# Altium footprint library UAV.PcbLib: 28 footprints (part 2 of 2)
Each footprint in its own frame and in the unit in brackets; x right, y up, seen from the top. Pads: shape width x height; smd on the part's side, far side on the other; paste and mask are expansions set on the pad; w line width, h text height; cw(c..) or ccw(c..) is an arc to the next point about the centre after c.
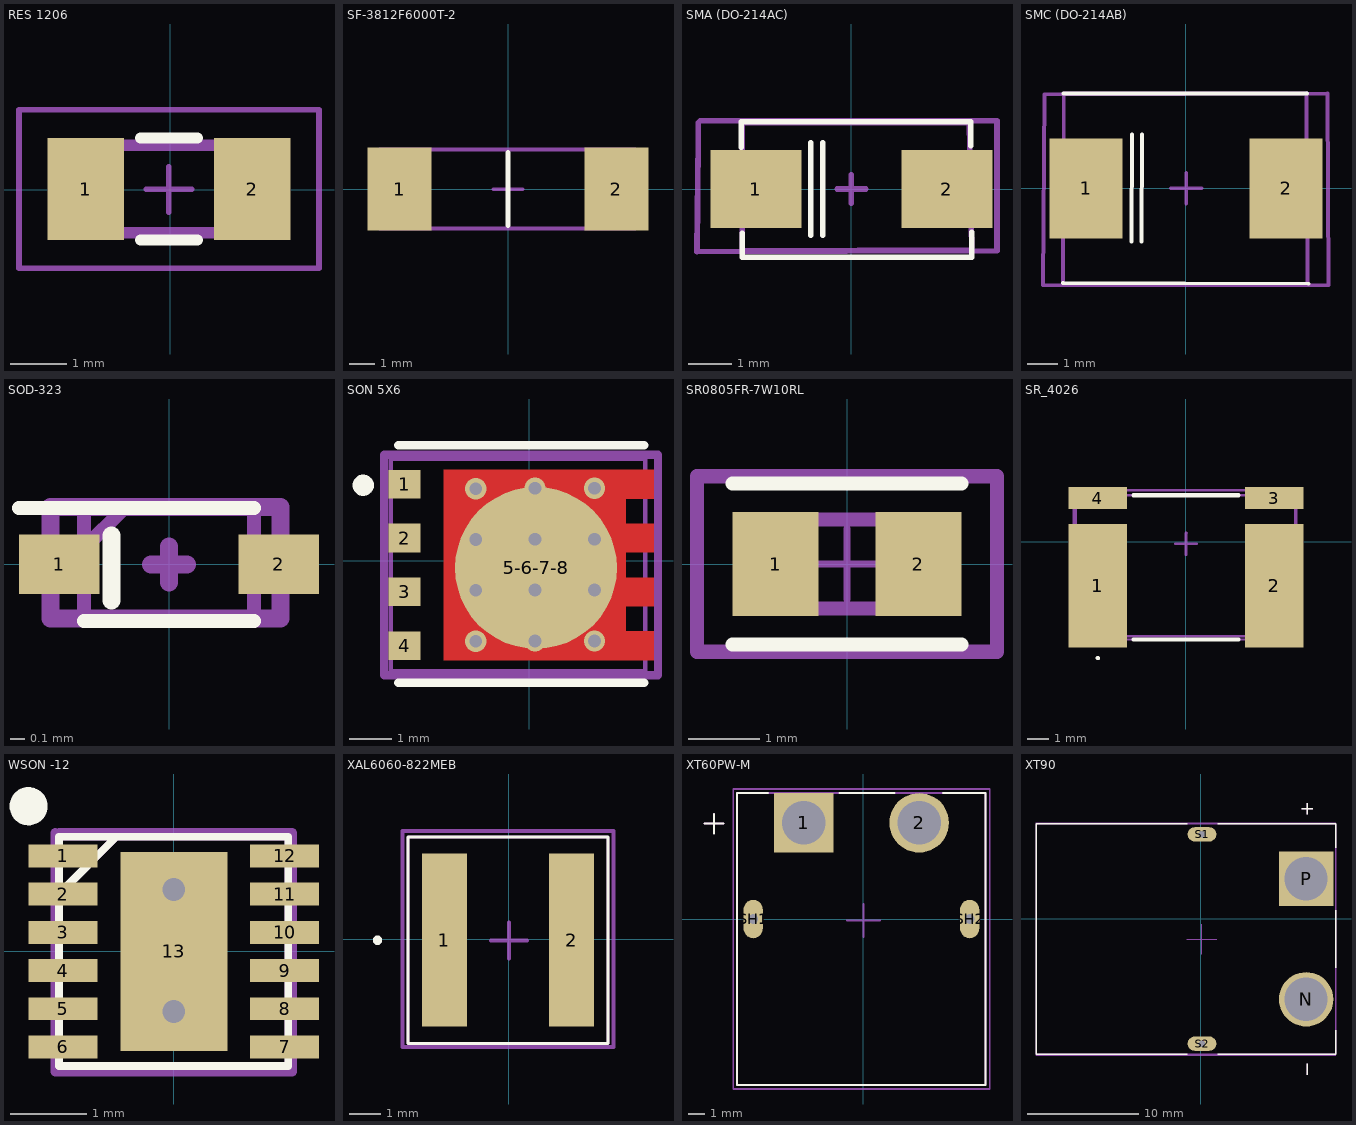
[diagram p1: the footprints below, top view; thin cyan lines are the x and y axes]

## RES 1206 [mm]
pads (2):
  rect 1.356x1.808 smd paste+0 mask+0: 1(-1.496,0.01) 2(1.456,0.01)
Top Overlay:
  lines w0.2: -0.518,-0.894 0.478,-0.894 ; -0.518,0.914 0.478,0.914
Top 3D Body:
  lines w0.2: -1.545,-0.765 -1.545,0.785 1.505,0.785 1.505,-0.765 -1.545,-0.765
Top Component Center:
  lines w0.1: -0.425,0.003 0.381,0.003 ; -0.022,-0.4 -0.022,0.406 ; -2.674,-1.394 -2.674,1.414 2.634,1.414 2.634,-1.394 -2.674,-1.394
Top Designator:
  text ".Designator" at -0.02,0.198 h1
3D body "Res_Stackpole_Electronics_CSR1206FKR500_eec.STEP": height 0.25, standoff 0, extent -2.674,-1.394 2.634,1.414

## SF-3812F6000T-2 [mm] "SF-3812F6000T-2"
pads (2):
  rect 2.55x3.32 smd: 1(-4.33,0) 2(4.33,0)
Top Overlay:
  lines w0.2: 0,-1.45 0,1.45
Top 3D Body:
  lines w0.127: -5.156,-1.6 -5.156,1.6 -5.105,1.6 5.08,1.6 5.08,-1.6 -5.156,-1.6
Top Component Center:
  lines w0.1: -5.05,-1.55 -5.05,1.55 5.05,1.55 5.05,-1.55 -5.05,-1.55
  lines w0.127: -0.597,-0.013 0.597,-0.013 ; 0,-0.61 0,0.584
3D body "SF-3812F6000T-2.stp": height 3.05, standoff -0.05, extent -5.101,-1.525 4.999,1.575

## SMA (DO-214AC) [mm] "SMAJ24A"
pads (2):
  rect 2.1x1.8 smd paste-2539.97 mask+0.05: 1(-2.2,0) 2(2.2,0)
Top Overlay:
  lines w0.127: -2.54,0.965 -2.54,1.549 2.743,1.549 2.743,0.991 ; -2.515,-1.016 -2.515,-1.575 2.769,-1.575 2.769,-0.991 ; -0.94,-1.067 -0.94,1.067 ; -0.66,-1.067 -0.66,1.067
Top 3D Body:
  lines w0.127: -2.515,-1.422 2.769,-1.397 2.718,1.524 -2.515,1.524 -2.515,-1.422
Top Component Center:
  lines w0.127: -3.531,1.524 -3.531,1.143 -3.556,-1.448 3.353,-1.422 3.353,1.575 -3.48,1.575 ; -0.33,0 0.33,0 ; 0,-0.33 0,0.33
Top Designator:
  text ".Designator" at 0.051,-0.711 h1.52
3D body "SMA (DO-214AC).STEP": height 2.3, standoff 0, extent -2.498,-1.374 2.702,1.526

## SMC (DO-214AB) [mm] "SMDJ20A"
pads (2):
  rect 2.4x3.3 smd paste-2539.97 mask+0.05: 1(-3.3,0) 2(3.3,0)
Top Overlay:
  lines w0.127: -4.064,-3.124 4.039,-3.15 ; -4.039,3.124 3.988,3.124 ; -1.803,-1.753 -1.778,1.778 ; -1.473,-1.753 -1.448,1.778
Top 3D Body:
  lines w0.127: -4.06,-3.15 4.008,-3.15 3.982,3.151 -4.034,3.126 -4.06,-3.15
Top Component Center:
  lines w0.127: -0.498,0 0.518,0 ; 0.01,-0.508 0.01,0.508 ; -4.724,-3.2 -4.674,3.099 4.674,3.124 4.699,-3.2 -4.724,-3.2
Top Designator:
  text ".Designator" at 0.508,-0.864 h1.52
3D body "SMC (DO-214AB).STEP": height 2.5, standoff 0, extent -4.067,-3.075 3.933,3.125

## SOD-323 [mm] "DDZ9699T-7 (12V Zener)"
pads (2):
  rect 0.57x0.42 smd: 1(-0.775,0) 2(0.775,0)
Top Overlay:
  lines w0.1: -1.06,0.4 0.6,0.4 ; -0.6,-0.4 0.6,-0.4
  lines w0.127: -0.406,-0.254 -0.406,0.203
Top 3D Body:
  lines w0.127: -0.838,0.406 -0.838,-0.381 0.787,-0.381 0.787,0.406 -0.813,0.406
Top Component Center:
  lines w0.1: -0.6,0.115 -0.315,0.4 ; -0.6,-0.4 0.6,-0.4 0.6,0.4 -0.6,0.4 -0.6,-0.4
  lines w0.127: -0.127,0 0.127,0 ; 0,-0.127 0,0.127
Top Designator:
  text ".Designator" at -1.422,-0.838 h1.52
3D body "DDZ9699T-7.stp": height 0.65, standoff 0, extent -0.825,-0.4 0.775,0.4

## SON 5X6 [mm]
pads (5):
  rect 0.75x0.675 smd paste-1000 mask+0: 1(-2.94,1.807) 2(-2.94,0.537) 3(-2.94,-0.733) 4(-2.94,-2.003)
  round 3.821 smd paste-1000 mask+0: 5-6-7-8(0.162,-0.168)
via 0.139,1.709 diameter 0.5 hole 0.3
via 1.539,-1.891 diameter 0.5 hole 0.3
via 1.539,-0.691 diameter 0.5 hole 0.3
via 1.539,0.509 diameter 0.5 hole 0.3
via 1.539,1.709 diameter 0.5 hole 0.3
via 0.139,-1.891 diameter 0.5 hole 0.3
via 0.139,-0.691 diameter 0.5 hole 0.3
via 0.139,0.509 diameter 0.5 hole 0.3
via -1.261,-1.898 diameter 0.5 hole 0.3
via -1.261,-0.698 diameter 0.5 hole 0.3
via -1.261,0.502 diameter 0.5 hole 0.3
via -1.261,1.702 diameter 0.5 hole 0.3
Top Layer:
  region: -2.01,2.144 2.94,2.144 2.94,1.469 2.285,1.469 2.285,0.874 2.94,0.874 2.94,0.199 2.285,0.199 2.285,-0.396 2.94,-0.396 2.94,-1.071 2.285,-1.071 2.285,-1.666 2.94,-1.666 2.94,-2.341 -2.01,-2.341
Top Overlay:
  circle w0.25: c-3.913,1.782 r0.125
  lines w0.2: -3.088,-2.873 2.712,-2.873 ; -3.088,2.722 2.712,2.722
Top Paste:
  rectangle: 0.132,-1.978 1.717,-0.408
  rectangle: 0.132,0.212 1.717,1.782
  rectangle: -1.603,-1.978 -0.368,-0.408
  rectangle: -1.603,0.212 -0.368,1.782
  rectangle: 2.332,1.557 2.832,2.057
  rectangle: 2.332,0.287 2.832,0.787
  rectangle: 2.332,-0.983 2.832,-0.483
  rectangle: 2.332,-2.253 2.832,-1.753
  rectangle: -3.208,-2.253 -2.708,-1.753
  rectangle: -3.208,-0.983 -2.708,-0.483
  rectangle: -3.208,0.287 -2.708,0.787
  rectangle: -3.208,1.557 -2.708,2.057
Top 3D Body:
  lines w0.1: -3.261,-2.598 -3.261,2.402 2.739,2.402 2.739,-2.598 -3.261,-2.598
Top Component Center:
  lines w0.1: -0.688,-0.098 0.312,-0.098 ; -0.188,-0.598 -0.188,0.402
  lines w0.2: -3.415,-2.698 3.04,-2.698 3.04,2.502 -3.415,2.502 -3.415,-2.698
Top Designator:
  text ".Designator" at -1.707,-0.537 h1.52
3D body "SON 5X6.STEP": height 1.1, standoff 0, extent -3.261,-2.548 2.739,2.352

## SR0805FR-7W10RL [mm]
pads (2):
  rect 1.208x1.462 smd paste+0 mask+0: 1(-1.002,0) 2(1.002,0)
Top Overlay:
  lines w0.2: -1.606,-1.131 1.606,-1.131 ; -1.606,1.131 1.606,1.131
Top 3D Body:
  lines w0.2: -1,-0.625 -1,0.625 1,0.625 1,-0.625 -1,-0.625
Top Component Center:
  lines w0.1: -0.5,0 0.5,0 ; 0,-0.5 0,0.5
  lines w0.2: -2.106,-1.231 -2.106,1.231 2.106,1.231 2.106,-1.231 -2.106,-1.231
Top Designator:
  text ".Designator" at 0,0.188 h1
3D body "Res_Yageo_SR0805FR-7T15RL_eec.STEP": height 0.25, standoff 0, extent -2.106,-1.231 2.106,1.231

## SR_4026 [mm]
pads (4):
  rect 2.67x5.66 smd: 1(-4.035,-2.007) 2(4.035,-2.007)
  rect 2.67x0.99 smd: 3(4.035,2.008) 4(-4.035,2.008)
Top Overlay:
  lines w0.1: -4.035,-5.367 cw(c-4.035,-5.317) -4.035,-5.267 cw(c-4.035,-5.317) -4.035,-5.367
  lines w0.2: -2.4,-4.467 2.4,-4.467 ; -2.4,2.133 2.4,2.133
Top 3D Body:
  lines w0.127: -5.131,-4.317 5.004,-4.317 5.004,2.363 -5.08,2.363 -5.131,2.363 -5.131,-4.317
Top Component Center:
  lines w0.1: -5.05,-4.467 5.05,-4.467 5.05,2.133 -5.05,2.133 -5.05,-4.467
  lines w0.127: -0.495,-0.089 0.495,-0.089 ; 0,-0.584 0,0.406 0.025,0.406
Top Designator:
  text ".Designator" at -0.889,-1.55 h1.52
3D body "WSLP40265L000FEA.stp": height 2.94, standoff -0.01, extent -5.101,-4.292 4.999,2.308

## WSON -12 [mm] "LMR51450SDRRR"
pads (13):
  rect 0.9x0.3 smd: 1(-1.45,1.25) 2(-1.45,0.75) 3(-1.45,0.25) 4(-1.45,-0.25) 5(-1.45,-0.75) 6(-1.45,-1.25) 7(1.45,-1.25) 8(1.45,-0.75) 9(1.45,-0.25) 10(1.45,0.25) 11(1.45,0.75) 12(1.45,1.25)
  rect 1.4x2.6 smd: 13(0,0)
via 0,0.813 diameter 0.6 hole 0.3
via 0,-0.787 diameter 0.6 hole 0.3
Top Overlay:
  circle w0.25: c-1.9,1.9 r0.125
  lines w0.1: -1.501,0.751 -0.751,1.501 ; -1.501,-1.499 -1.501,1.501 1.499,1.501 1.499,-1.499 -1.501,-1.499
Top 3D Body:
  lines w0.127: -1.549,1.549 -1.549,-1.575 1.549,-1.575 1.549,1.549 -1.499,1.549
Top Component Center:
  lines w0.1: -1.5,0.75 -0.75,1.5 ; -1.5,-1.5 -1.5,1.5 1.5,1.5 1.5,-1.5 -1.5,-1.5
Top Designator:
  text ".Designator" at -0.991,-0.635 h1.52
3D body "LMR51450SDRRR.stp": height 0.77, standoff -0.03, extent -1.5,-1.5 1.5,1.5

## XAL6060-822MEB [mm] "XAL6060-822MEB"
pads (2):
  rect 1.43x5.5 smd: 1(-2.045,-0.025) 2(1.995,-0.025)
Top Overlay:
  lines w0.1: -3.205,-3.305 3.155,-3.305 3.155,3.255 -3.205,3.255 -3.205,-3.305
  lines w0.2: -4.225,-0.025 ccw(c-4.175,-0.025) -4.125,-0.025 ; -4.225,-0.025 cw(c-4.175,-0.025) -4.125,-0.025 ; -4.225,-0.025 ccw(c-4.175,-0.025) -4.125,-0.025
Top 3D Body:
  lines w0.127: -3.378,-3.429 -3.378,3.454 -3.302,3.454 3.327,3.454 3.327,-3.429 -3.378,-3.429
Top Component Center:
  lines w0.1: -3.205,-3.305 3.155,-3.305 3.155,3.255 -3.205,3.255 -3.205,-3.305
  lines w0.127: -0.572,-0.038 0.572,-0.038 ; 0,-0.61 0,0.533
3D body "XAL6060-822MEB.stp": height 6, standoff -0.1, extent -3.305,-3.355 3.255,3.405

## XT60PW-M [mm] "XT60PW-M"
pads (4):
  rect 3.716x3.716 / inner round 3.716 / far side rect 3.716x3.716 hole 2.7 mask+0.102: 1(-3.727,6)
  round 3.716 hole 2.7 mask+0.102: 2(3.473,6)
  oval 1.2x2.4 hole 0.6 square mask+0.102: SH1(-6.877,0) SH2(6.623,0)
Top Overlay:
  lines w0.127: -9.927,5.95 -8.727,5.95 ; -9.327,5.35 -9.327,6.55 ; -5.955,7.85 -7.877,7.85 -7.877,-10.35 7.623,-10.35 7.623,7.85 4.951,7.85 ; -1.499,7.85 1.945,7.85
Top 3D Body:
  lines w0.127: -9.927,5.95 -8.727,5.95 ; -9.327,5.35 -9.327,6.55 ; -7.877,-10.35 -7.877,7.85 7.623,7.85 7.623,-10.35 -7.877,-10.35
Top Component Center:
  lines w0.1: -8.127,-10.6 -8.127,8.11 7.873,8.11 7.873,-10.6 -8.127,-10.6
  lines w0.127: -1.029,-0.089 1.029,-0.089 ; 0,-1.118 0,0.94
3D body "step_temp.STEP": height 8.4, standoff -2.55, extent -7.877,-10.35 7.623,7.85

## XT90 [mm]
pads (4):
  round 4.916 hole 3.9: N(9.521,-7.28)
  rect 4.916x4.916 / inner round 4.916 / far side rect 4.916x4.916 hole 3.9: P(9.521,3.62)
  oval 2.6x1.3 hole 0.6 square: S1(0.121,7.62) S2(0.121,-11.28)
Top Overlay:
  lines w0.127: -1.229,-12.23 -14.879,-12.23 -14.879,8.57 -1.229,8.57 ; 1.521,-12.23 12.221,-12.23 12.221,-10.08 ; 1.521,8.57 12.221,8.57 12.221,6.42 ; 9.121,9.92 10.121,9.92 ; 9.621,-14.08 9.621,-13.08 ; 9.621,9.42 9.621,10.42 ; 12.221,-4.43 12.221,0.77
Top 3D Body:
  lines w0.127: 9.121,9.92 10.121,9.92 ; 9.621,-14.08 9.621,-13.08 ; 9.621,9.42 9.621,10.42 ; -14.879,-12.23 12.221,-12.23 12.221,8.57 -14.879,8.57 -14.879,-12.23
Top Component Center:
  lines w0.1: -1.269,-1.84 -1.269,-1.85 1.461,-1.85 1.461,-1.84 ; 0.084,-3.213 0.084,-0.483 ; -14.869,-12.32 12.211,-12.32 12.211,8.55 12.211,8.65 -14.869,8.65 -14.869,-12.32
Top Designator:
  text ".Designator" at 7.544,-2.058 h1.52
3D body "step_temp.STEP": height 10.3, standoff -3.2, extent -14.879,-12.43 12.221,8.77